# EAGLE library part CC1190RGVR (library CC1190RGVR)
850 - 950MHz RF Front End Source: Datasheet <http://www.ti.com/lit/gpn/cc1190>
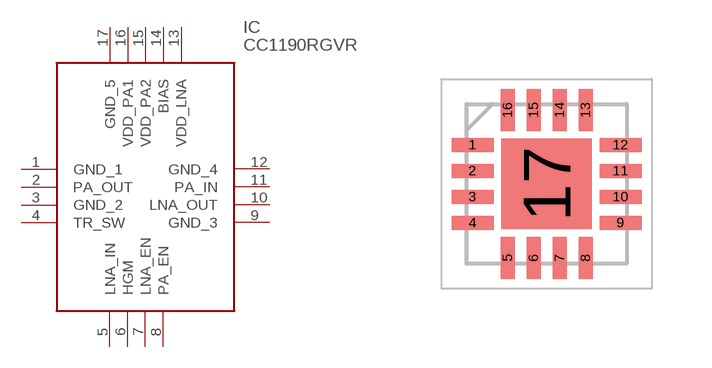
[diagram p0: symbol with the pads of QFN65P400X400X100-17N; footprint QFN65P400X400X100-17N]

Designator prefix IC

## CC1190RGVR (Arrow_Part_Number: CC1190RGVR; Arrow_Price-Stock: https://www.arrow.com/en/products/cc1190rgvr/texas-instruments; Description: 850 - 950MHz RF Front End; Height: 1mm; Manufacturer_Name: Texas Instruments; Manufacturer_Part_Number: CC1190RGVR; Mouser_Part_Number: 595-CC1190RGVR; Mouser_Price-Stock: https://www.mouser.co.uk/ProductDetail/Texas-Instruments/CC1190RGVR?qs=%2Fqzd9s%252BcLd42dnkMuKJeGg%3D%3D)  [QFN65P400X400X100-17N]
1  GND_1
2  PA_OUT
3  GND_2
4  TR_SW
5  LNA_IN
6  HGM
7  LNA_EN
8  PA_EN
9  GND_3
10  LNA_OUT
11  PA_IN
12  GND_4
13  VDD_LNA
14  BIAS
15  VDD_PA2
16  VDD_PA1
17  GND_5

## Footprint QFN65P400X400X100-17N (pad centres in mm)
CC1190RGVR-1
smd 1.05 x 0.35: 1 -1.85,0.975; 2 -1.85,0.325; 3 -1.85,-0.325; 4 -1.85,-0.975; 9 1.85,-0.975; 10 1.85,-0.325; 11 1.85,0.325; 12 1.85,0.975
smd 0.35 x 1.05: 5 -0.975,-1.85; 6 -0.325,-1.85; 7 0.325,-1.85; 8 0.975,-1.85; 13 0.975,1.85; 14 0.325,1.85; 15 -0.325,1.85; 16 -0.975,1.85
smd 2.26 x 2.26: 17 0,0